# Altium footprint library VALCON_THS-02-R-RAF.PcbLib: 1 footprints
Each footprint in its own frame and in the unit in brackets; x right, y up, seen from the top. Pads: shape width x height; smd on the part's side, far side on the other; paste and mask are expansions set on the pad; w line width, h text height; cw(c..) or ccw(c..) is an arc to the next point about the centre after c.
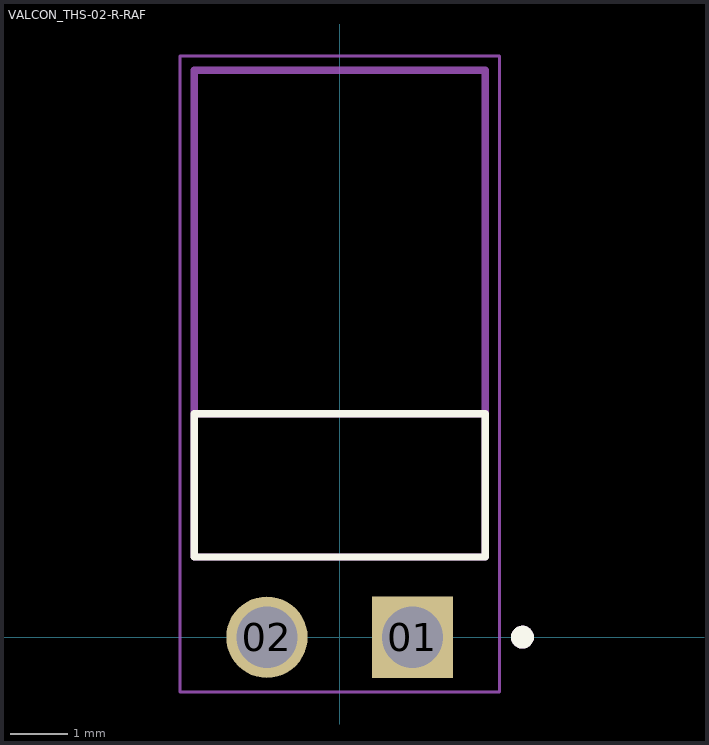
[diagram p0: the footprint, top view; thin cyan lines are the x and y axes]

## VALCON_THS-02-R-RAF [mm]
pads (2):
  rect 1.42x1.42 hole 1.07: 01(1.27,0)
  round 1.42 hole 1.07: 02(-1.27,0)
Top Overlay:
  circle w0.2: c3.19,0 r0.1
  lines w0.127: -2.54,1.4 2.54,1.4 2.54,3.9 -2.54,3.9 -2.54,1.4
Mechanical 13:
  circle w0.2: c3.19,0 r0.1
  lines w0.127: -2.54,1.4 -2.54,9.9 2.54,9.9 2.54,1.4 ; -2.54,1.4 2.54,1.4 ; -2.54,1.4 -2.54,3.9 2.54,3.9 2.54,1.4
Mechanical 15:
  lines w0.05: -2.79,-0.96 2.79,-0.96 2.79,10.15 -2.79,10.15 -2.79,-0.96
3D body "header 2.STEP": height 4.23, standoff -5.99, extent -2.54,-1.23 2.54,4.27